# Altium schematic symbol library SCH - Diode-Ideal-Controller - LTC4352.SCHLIB: 1 symbol
Pins are listed as number, name and electrical type; pins without a type are passive.

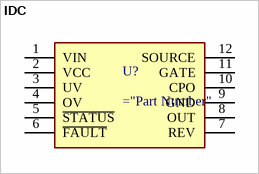
[diagram p0: symbol IDC]

## IDC
designator U?
Ideal Diode Controller
pins: 1 VIN, 2 VCC, 3 UV, 4 OV, 5 ~{STATUS}, 6 ~{FAULT}, 7 REV, 8 OUT, 9 GND, 10 CPO, 11 GATE, 12 SOURCE